# EAGLE library part MCP1825T-5002E/DC (library MCP1825T-5002E_DC)
IC, LDO VOLT REG, 1.8V, 0.5A
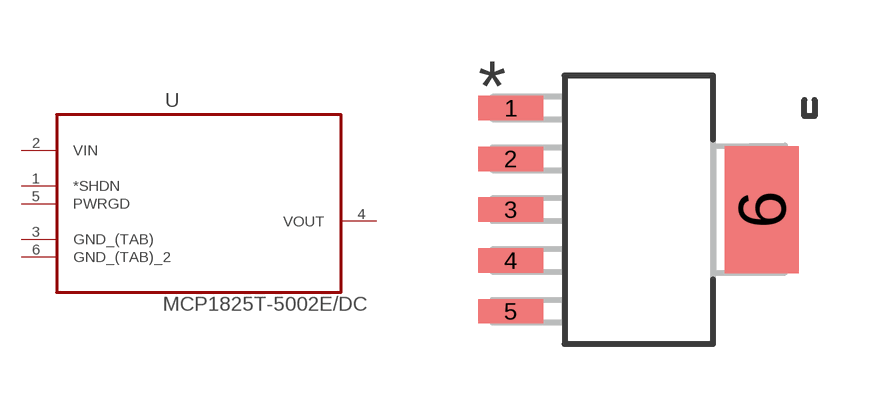
[diagram p0: symbol with the pads of SOT230P700X180-6N; footprint SOT230P700X180-6N]

Designator prefix U

## MCP1825T-5002E/DC (Availability: Good; Description: Ic, Linear Regulator; Max. Input, 6v; Output, 5v; 500ma; Accuracy, 0.5%; Sot223-5; MF: Microchip; MP: MCP1825T-5002E/DC; Package: None; Price: 0.44 USD)  [SOT230P700X180-6N]
1  *SHDN  in
2  VIN  in
3  GND_(TAB)  pas
4  VOUT  out
5  PWRGD  in
6  GND_(TAB)_2  pas

## Footprint SOT230P700X180-6N (pad centres in mm)
smd 1.626 x 0.61: 1 -3.2,2.54; 2 -3.2,1.27; 3 -3.2,0; 4 -3.2,-1.27; 5 -3.2,-2.54
smd 1.854 x 3.175: 6 3.073,0